# EAGLE library part MTFC2GMDEA (library Revolve)
MTFC2GMDEA edit this description Auto generated by make-symbol-device-package-bsdl.ulp Rev. 44 Source: MTFC2GMDEA.txt
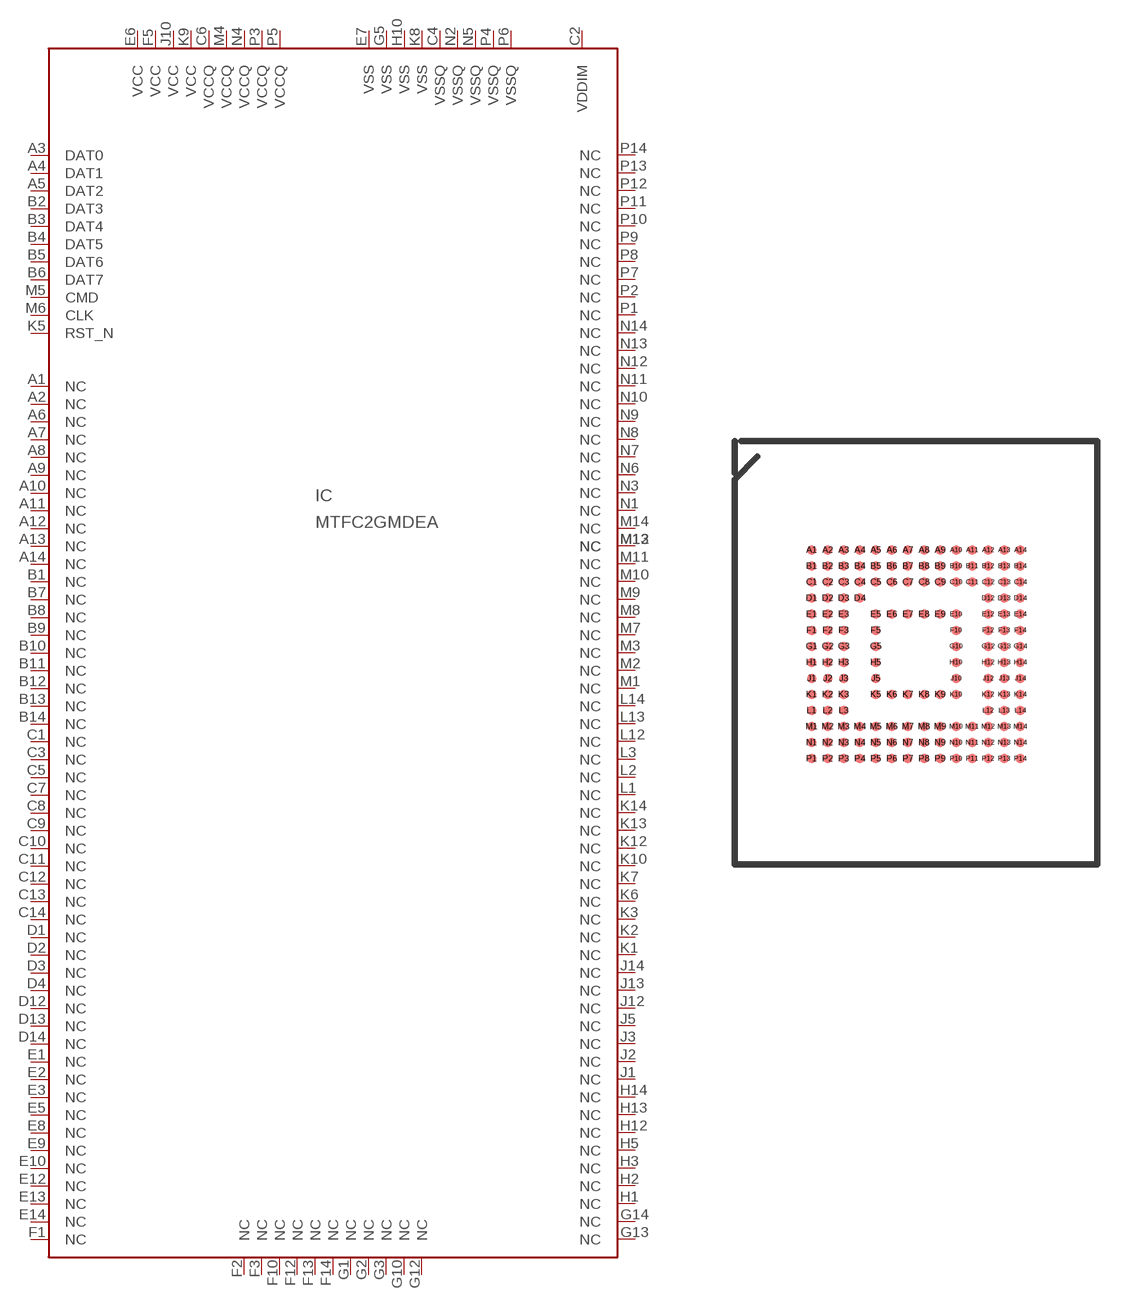
[diagram p4: symbol with the pads of WFBGA; footprint WFBGA]

Designator prefix IC

## MTFC2GMDEA  [WFBGA]
A1  NC  nc
A2  NC  nc
A3  DAT0
A4  DAT1
A5  DAT2
A6  NC  nc
A7  NC  nc
A8  NC  nc
A9  NC  nc
A10  NC  nc
A11  NC  nc
A12  NC  nc
A13  NC  nc
A14  NC  nc
B1  NC  nc
B2  DAT3
B3  DAT4
B4  DAT5
B5  DAT6
B6  DAT7
B7  NC  nc
B8  NC  nc
B9  NC  nc
B10  NC  nc
B11  NC  nc
B12  NC  nc
B13  NC  nc
B14  NC  nc
C1  NC  nc
C2  VDDIM  pwr
C3  NC  nc
C4  VSSQ  pwr
C5  NC  nc
C6  VCCQ  pwr
C7  NC  nc
C8  NC  nc
C9  NC  nc
C10  NC  nc
C11  NC  nc
C12  NC  nc
C13  NC  nc
C14  NC  nc
D1  NC  nc
D2  NC  nc
D3  NC  nc
D4  NC  nc
D12  NC  nc
D13  NC  nc
D14  NC  nc
E1  NC  nc
E2  NC  nc
E3  NC  nc
E5  NC  nc
E6  VCC  pwr
E7  VSS  pwr
E8  NC  nc
E9  NC  nc
E10  NC  nc
E12  NC  nc
E13  NC  nc
E14  NC  nc
F1  NC  nc
F2  NC  nc
F3  NC  nc
F5  VCC  pwr
F10  NC  nc
F12  NC  nc
F13  NC  nc
F14  NC  nc
G1  NC  nc
G2  NC  nc
G3  NC  nc
G5  VSS  pwr
G10  NC  nc
G12  NC  nc
G13  NC  nc
G14  NC  nc
H1  NC  nc
H2  NC  nc
H3  NC  nc
H5  NC  nc
H10  VSS  pwr
H12  NC  nc
H13  NC  nc
H14  NC  nc
J1  NC  nc
J2  NC  nc
J3  NC  nc
J5  NC  nc
J10  VCC  pwr
J12  NC  nc
J13  NC  nc
J14  NC  nc
K1  NC  nc
K2  NC  nc
K3  NC  nc
K5  RST_N  in
K6  NC  nc
K7  NC  nc
K8  VSS  pwr
K9  VCC  pwr
K10  NC  nc
K12  NC  nc
K13  NC  nc
K14  NC  nc
L1  NC  nc
L2  NC  nc
L3  NC  nc
L12  NC  nc
L13  NC  nc
L14  NC  nc
M1  NC  nc
M2  NC  nc
M3  NC  nc
M4  VCCQ  pwr
M5  CMD
M6  CLK  in
M7  NC  nc
M8  NC  nc
M9  NC  nc
M10  NC  nc
M11  NC  nc
M12  NC  nc
M13  NC  nc
M14  NC  nc
N1  NC  nc
N2  VSSQ  pwr
N3  NC  nc
N4  VCCQ  pwr
N5  VSSQ  pwr
N6  NC  nc
N7  NC  nc
N8  NC  nc
N9  NC  nc
N10  NC  nc
N11  NC  nc
N12  NC  nc
N13  NC  nc
N14  NC  nc
P1  NC  nc
P2  NC  nc
P3  VCCQ  pwr
P4  VSSQ  pwr
P5  VCCQ  pwr
P6  VSSQ  pwr
P7  NC  nc
P8  NC  nc
P9  NC  nc
P10  NC  nc
P11  NC  nc
P12  NC  nc
P13  NC  nc
P14  NC  nc

## Footprint WFBGA (pad centres in mm)
MTFC2GMDEA edit this description Auto generated by make-symbol-device-package-bsdl.ulp Rev. 44 Source: MTFC2GMDEA.txt
smd 0.3 x 0.3: A1 -3.25,3.25; A2 -2.75,3.25; A3 -2.25,3.25; A4 -1.75,3.25; A5 -1.25,3.25; A6 -0.75,3.25; A7 -0.25,3.25; A8 0.25,3.25; A9 0.75,3.25; A10 1.25,3.25; A11 1.75,3.25; A12 2.25,3.25; A13 2.75,3.25; A14 3.25,3.25; B1 -3.25,2.75; B2 -2.75,2.75; B3 -2.25,2.75; B4 -1.75,2.75; B5 -1.25,2.75; B6 -0.75,2.75; B7 -0.25,2.75; B8 0.25,2.75; B9 0.75,2.75; B10 1.25,2.75; B11 1.75,2.75; B12 2.25,2.75; B13 2.75,2.75; B14 3.25,2.75; C1 -3.25,2.25; C2 -2.75,2.25; C3 -2.25,2.25; C4 -1.75,2.25; C5 -1.25,2.25; C6 -0.75,2.25; C7 -0.25,2.25; C8 0.25,2.25; C9 0.75,2.25; C10 1.25,2.25; C11 1.75,2.25; C12 2.25,2.25; C13 2.75,2.25; C14 3.25,2.25; D1 -3.25,1.75; D2 -2.75,1.75; D3 -2.25,1.75; D4 -1.75,1.75; D12 2.25,1.75; D13 2.75,1.75; D14 3.25,1.75; E1 -3.25,1.25; E2 -2.75,1.25; E3 -2.25,1.25; E5 -1.25,1.25; E6 -0.75,1.25; E7 -0.25,1.25; E8 0.25,1.25; E9 0.75,1.25; E10 1.25,1.25; E12 2.25,1.25; E13 2.75,1.25; E14 3.25,1.25; F1 -3.25,0.75; F2 -2.75,0.75; F3 -2.25,0.75; F5 -1.25,0.75; F10 1.25,0.75; F12 2.25,0.75; F13 2.75,0.75; F14 3.25,0.75; G1 -3.25,0.25; G2 -2.75,0.25; G3 -2.25,0.25; G5 -1.25,0.25; G10 1.25,0.25; G12 2.25,0.25; G13 2.75,0.25; G14 3.25,0.25; H1 -3.25,-0.25; H2 -2.75,-0.25; H3 -2.25,-0.25; H5 -1.25,-0.25; H10 1.25,-0.25; H12 2.25,-0.25; H13 2.75,-0.25; H14 3.25,-0.25; J1 -3.25,-0.75; J2 -2.75,-0.75; J3 -2.25,-0.75; J5 -1.25,-0.75; J10 1.25,-0.75; J12 2.25,-0.75; J13 2.75,-0.75; J14 3.25,-0.75; K1 -3.25,-1.25; K2 -2.75,-1.25; K3 -2.25,-1.25; K5 -1.25,-1.25; K6 -0.75,-1.25; K7 -0.25,-1.25; K8 0.25,-1.25; K9 0.75,-1.25; K10 1.25,-1.25; K12 2.25,-1.25; K13 2.75,-1.25; K14 3.25,-1.25; L1 -3.25,-1.75; L2 -2.75,-1.75; L3 -2.25,-1.75; L12 2.25,-1.75; L13 2.75,-1.75; L14 3.25,-1.75; M1 -3.25,-2.25; M2 -2.75,-2.25; M3 -2.25,-2.25; M4 -1.75,-2.25; M5 -1.25,-2.25; M6 -0.75,-2.25; M7 -0.25,-2.25; M8 0.25,-2.25; M9 0.75,-2.25; M10 1.25,-2.25; M11 1.75,-2.25; M12 2.25,-2.25; M13 2.75,-2.25; M14 3.25,-2.25; N1 -3.25,-2.75; N2 -2.75,-2.75; N3 -2.25,-2.75; N4 -1.75,-2.75; N5 -1.25,-2.75; N6 -0.75,-2.75; N7 -0.25,-2.75; N8 0.25,-2.75; N9 0.75,-2.75; N10 1.25,-2.75; N11 1.75,-2.75; N12 2.25,-2.75; N13 2.75,-2.75; N14 3.25,-2.75; P1 -3.25,-3.25; P2 -2.75,-3.25; P3 -2.25,-3.25; P4 -1.75,-3.25; P5 -1.25,-3.25; P6 -0.75,-3.25; P7 -0.25,-3.25; P8 0.25,-3.25; P9 0.75,-3.25; P10 1.25,-3.25; P11 1.75,-3.25; P12 2.25,-3.25; P13 2.75,-3.25; P14 3.25,-3.25